# EAGLE library part MC100EL32 (library yapo)
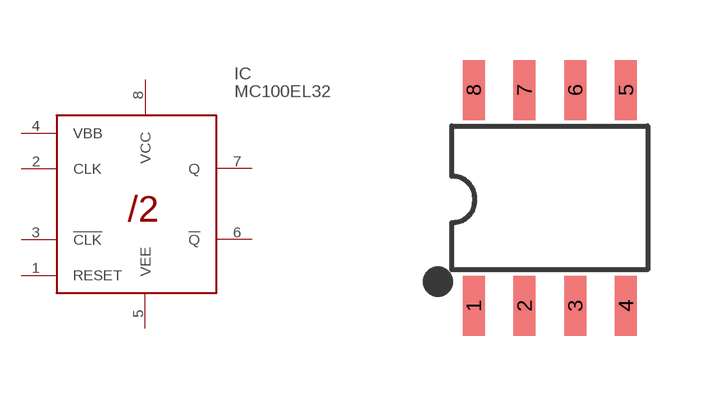
[diagram p64: symbol with the pads of SOIC8; footprint SOIC8]

Designator prefix IC

## MC100EL32  [SOIC8]
1  RESET
2  CLK
3  !CLK!
4  VBB
5  VEE
6  !Q!
7  Q
8  VCC

## Footprint SOIC8 (pad centres in mm)
smd 0.55 x 1.5: 1 -1.905,-2.7; 2 -0.635,-2.7; 3 0.635,-2.7; 4 1.905,-2.7; 5 1.905,2.7; 6 0.635,2.7; 7 -0.635,2.7; 8 -1.905,2.7